# EAGLE library part HV826MG_BACKLIGHT (library SparkFun)
HV826MG Small EL backlight driver for the CFAX 128x64 graphical display.
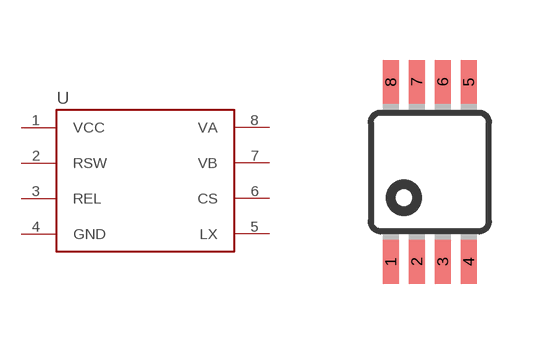
[diagram p11: symbol with the pads of MSOP8; footprint MSOP8]

Designator prefix -

## HV826MG_BACKLIGHT  [MSOP8]
1  VCC
2  RSW
3  REL  pwr
4  GND  pwr
5  LX
6  CS
7  VB
8  VA

## Footprint MSOP8 (pad centres in mm)
8M, 8-Lead, 0.118" Wide, Miniature Small Outline Package MSOP 8M-Package doc1097.pdf
smd 0.4 x 1.1: 1 -0.975,-2.25; 2 -0.325,-2.25; 3 0.325,-2.25; 4 0.975,-2.25; 5 0.975,2.25; 6 0.325,2.25; 7 -0.325,2.25; 8 -0.975,2.25